# Altium footprint library 4.01-2.00mm排针-排母.PcbLib: 40 footprints (part 1 of 3)
Each footprint in its own frame and in the unit in brackets; x right, y up, seen from the top. Pads: shape width x height; smd on the part's side, far side on the other; paste and mask are expansions set on the pad; w line width, h text height; cw(c..) or ccw(c..) is an arc to the next point about the centre after c.
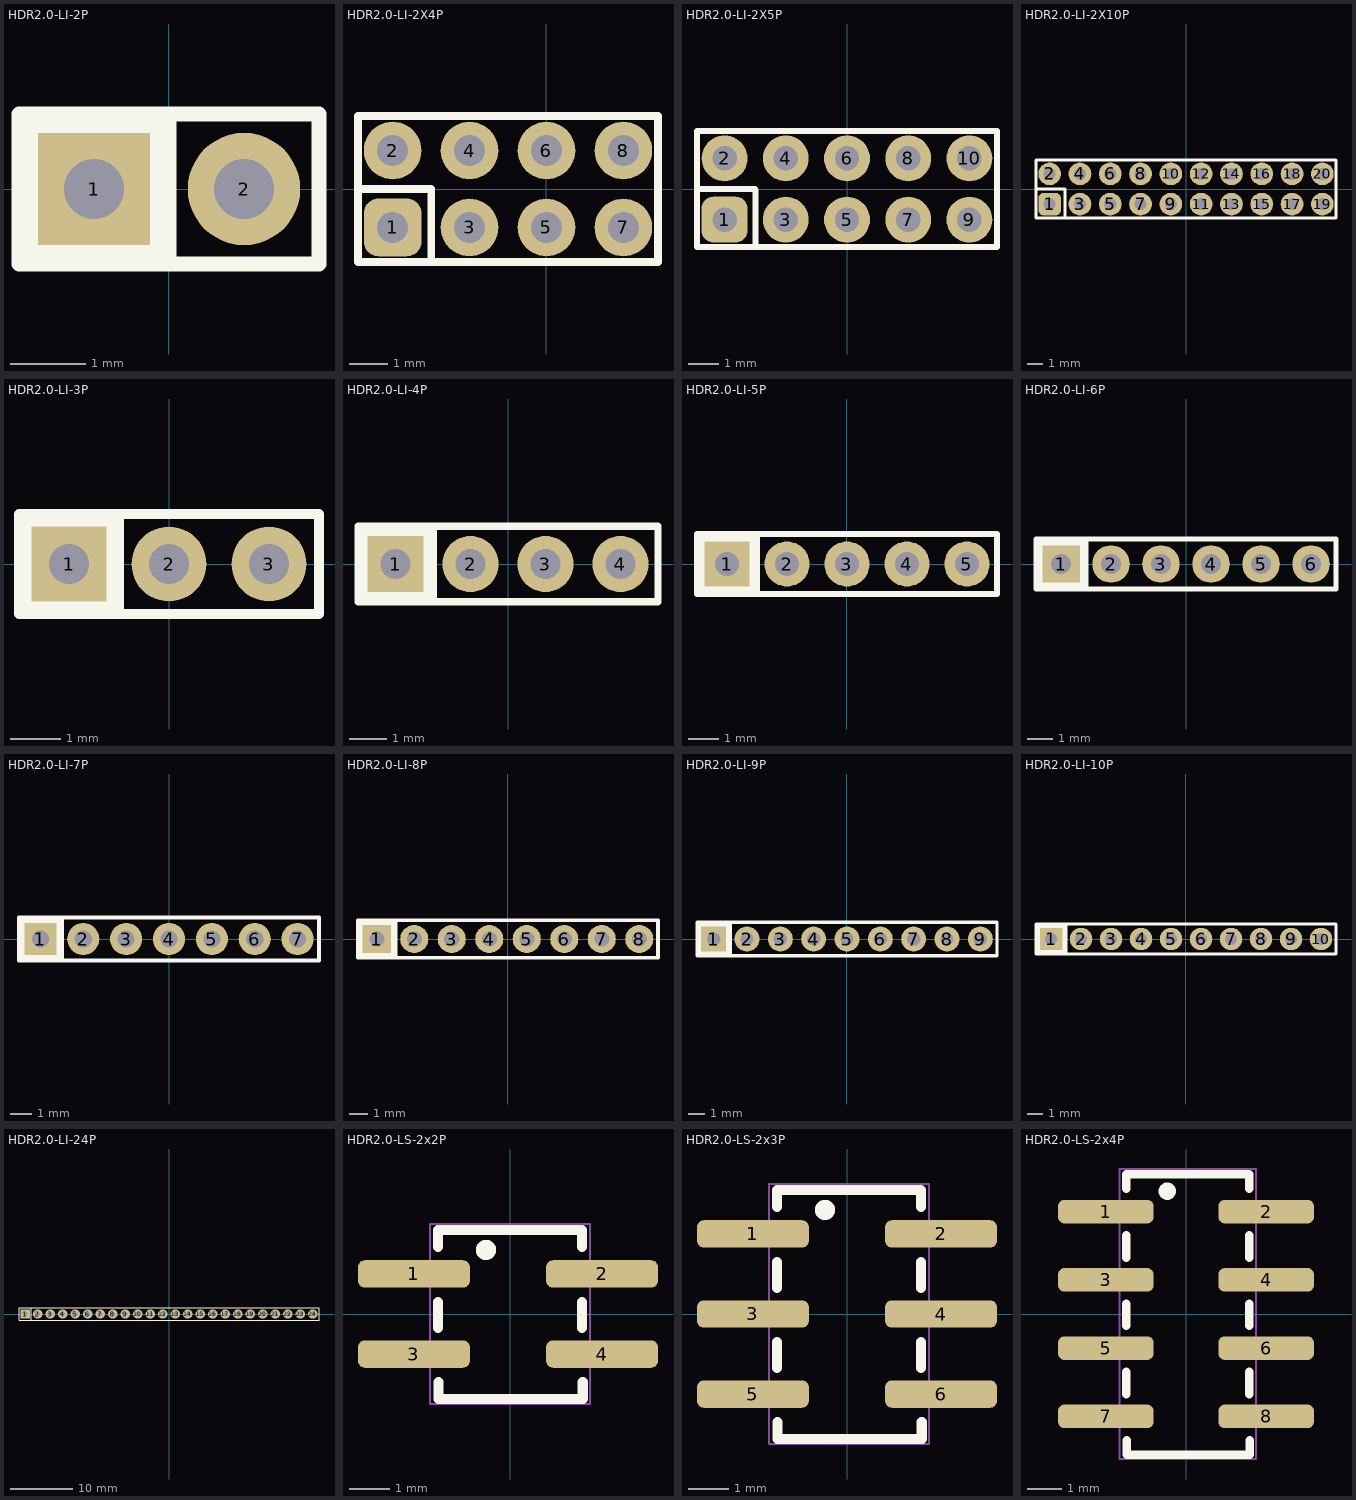
[diagram p0: the footprints below, top view; thin cyan lines are the x and y axes]

## HDR2.0-LI-2P [mm] "直插，脚距：2.0mm  封装库来自淘宝卖家 ID：黄晶宝石"
pads (2):
  rect 1.5x1.5 hole 0.8: 1(-1,0)
  round 1.5 hole 0.8: 2(1,0)
Top Overlay:
  rectangle: -2,-1 0,1
  lines w0.2: 0,-1 0,1 ; -2,-1 2,-1 2,1 -2,1 -2,-1
3D body "HDR2.0-LI-2P.STEP": height 6.5, standoff -2.8, extent -2,-1 2,1

## HDR2.0-LI-2X4P [mm] "双排直插2x4Pin，脚距：2.0mm"
pads (8):
  rrect50% 1.5x1.5 hole 0.8: 1(-4,-1)
  round 1.5 hole 0.8: 2(-4,1) 3(-2,-1) 4(-2,1) 5(0,-1) 6(0,1) 7(2,-1) 8(2,1)
Top Overlay:
  lines w0.2: -4.9,0 -3,0 ; -2.993,-1.9 -2.993,-0.027 ; -4.9,-1.9 -4.9,1.9 2.9,1.9 2.9,-1.9 -4.9,-1.9
3D body "HDR2.0-LI-4P.STEP": height 6.5, standoff -2.8, extent -5,0 3,2
3D body "HDR2.0-LI-4P.STEP": height 6.5, standoff -2.8, extent -5,-2 3,0

## HDR2.0-LI-2X5P [mm] "双排直插2x5Pin，脚距：2.0mm"
pads (10):
  rrect50% 1.5x1.5 hole 0.8: 1(-4,-1)
  round 1.5 hole 0.8: 2(-4,1) 3(-2,-1) 4(-2,1) 5(0,-1) 6(0,1) 7(2,-1) 8(2,1) 9(4,-1) 10(4,1)
Top Overlay:
  lines w0.2: -4.9,0 -3,0 ; -2.993,-1.9 -2.993,-0.027 ; -4.9,-1.9 4.9,-1.9 4.9,1.9 -4.9,1.9 -4.9,-1.9
3D body "HDR2.0-LI-5P.STEP": height 6.5, standoff -2.8, extent -5,-2 5,0
3D body "HDR2.0-LI-5P.STEP": height 6.5, standoff -2.8, extent -5,0 5,2

## HDR2.0-LI-2X10P [mm] "双排直插2x10Pin，脚距：2.0mm"
pads (20):
  rrect50% 1.5x1.5 hole 0.8: 1(-9,-1)
  round 1.5 hole 0.8: 2(-9,1) 3(-7,-1) 4(-7,1) 5(-5,-1) 6(-5,1) 7(-3,-1) 8(-3,1) 9(-1,-1) 10(-1,1) 11(1,-1) 12(1,1) 13(3,-1) 14(3,1) 15(5,-1) 16(5,1) 17(7,-1) 18(7,1) 19(9,-1) 20(9,1)
Top Overlay:
  lines w0.2: -9.891,0 -8,0 -8,-1.9 ; -9.9,-1.9 -9.9,1.9 9.9,1.9 9.9,-1.9 -9.9,-1.9
3D body "HDR2.0-LI-10P.STEP": height 6.5, standoff -2.8, extent -10,0 10,2
3D body "HDR2.0-LI-10P.STEP": height 6.5, standoff -2.8, extent -10,-2 10,0

## HDR2.0-LI-3P [mm] "直插，脚距：2.0mm 封装库来自淘宝卖家 ID：黄晶宝石"
pads (3):
  rect 1.5x1.5 hole 0.8: 1(-2,0)
  round 1.5 hole 0.8: 2(0,0) 3(2,0)
Top Overlay:
  rectangle: -3,-1 -1,1
  lines w0.2: -1,-1 -1,1 ; -3,-1 3,-1 3,1 -3,1 -3,-1
3D body "HDR2.0-LI-3P.STEP": height 2.3, standoff -7, extent -3,-1 3,1

## HDR2.0-LI-4P [mm] "直插，脚距：2.0mm 封装库来自淘宝卖家 ID：黄晶宝石"
pads (4):
  rect 1.5x1.5 hole 0.8: 1(-3,0)
  round 1.5 hole 0.8: 2(-1,0) 3(1,0) 4(3,0)
Top Overlay:
  rectangle: -4,-1 -2,1
  lines w0.2: -2,-1 -2,1 ; -4,-1 -4,1 4,1 4,-1 -4,-1
3D body "HDR2.0-LI-4P.STEP": height 6.5, standoff -2.8, extent -4,-1 4,1

## HDR2.0-LI-5P [mm] "直插，脚距：2.0mm"
pads (5):
  rect 1.5x1.5 hole 0.8: 1(-4,0)
  round 1.5 hole 0.8: 2(-2,0) 3(0,0) 4(2,0) 5(4,0)
Top Overlay:
  rectangle: -5,-1 -3,1
  lines w0.2: -3,-1 -3,1 ; -5,-1 5,-1 ; -5,-1 -5,1 5,1 5,-1 ; -5,-1 5,-1
3D body "HDR2.0-LI-5P.STEP": height 6.5, standoff -2.8, extent -5,-1 5,1

## HDR2.0-LI-6P [mm] "直插，脚距：2.0mm 封装库来自淘宝卖家 ID：黄晶宝石"
pads (6):
  rect 1.5x1.5 hole 0.8: 1(-5,0)
  round 1.5 hole 0.8: 2(-3,0) 3(-1,0) 4(1,0) 5(3,0) 6(5,0)
Top Overlay:
  rectangle: -6,-1 -4,1
  lines w0.2: -4,-1 -4,1 ; -6,-1 6,-1 6,1 -6,1 -6,-1
3D body "HDR2.0-LI-6P.STEP": height 6.5, standoff -2.8, extent -6,-1 6,1

## HDR2.0-LI-7P [mm] "直插，脚距：2.0mm 封装库来自淘宝卖家 ID：黄晶宝石"
pads (7):
  rect 1.5x1.5 hole 0.8: 1(-6,0)
  round 1.5 hole 0.8: 2(-4,0) 3(-2,0) 4(0,0) 5(2,0) 6(4,0) 7(6,0)
Top Overlay:
  rectangle: -7,-1 -5,1
  lines w0.2: -5,-1 -5,1 ; -7,-1 7,-1 7,1 -7,1 -7,-1
3D body "HDR2.0-LI-7P.STEP": height 6.5, standoff -2.8, extent -7,-1 7,1

## HDR2.0-LI-8P [mm] "直插，脚距：2.0mm 封装库来自淘宝卖家 ID：黄晶宝石"
pads (8):
  rect 1.5x1.5 hole 0.8: 1(-7,0)
  round 1.5 hole 0.8: 2(-5,0) 3(-3,0) 4(-1,0) 5(1,0) 6(3,0) 7(5,0) 8(7,0)
Top Overlay:
  rectangle: -8,-1 -6,1
  lines w0.2: -6,-1 -6,1 ; -8,-1 -8,1 8,1 8,-1 -8,-1
3D body "HDR2.0-LI-8P.STEP": height 6.5, standoff -2.8, extent -8,-1 8,1

## HDR2.0-LI-9P [mm] "直插，脚距：2.0mm"
pads (9):
  rect 1.5x1.5 hole 0.8: 1(-8,0)
  round 1.5 hole 0.8: 2(-6,0) 3(-4,0) 4(-2,0) 5(0,0) 6(2,0) 7(4,0) 8(6,0) 9(8,0)
Top Overlay:
  rectangle: -9,-1 -7,1
  lines w0.2: -7,-1 -7,1 ; -9,-1 9,-1 9,1 -9,1 -9,-1
3D body "HDR2.0-LI-9P.STEP": height 6.5, standoff -2.8, extent -9,-1 9,1

## HDR2.0-LI-10P [mm] "直插，脚距：2.0mm"
pads (10):
  rect 1.5x1.5 hole 0.8: 1(-9,0)
  round 1.5 hole 0.8: 2(-7,0) 3(-5,0) 4(-3,0) 5(-1,0) 6(1,0) 7(3,0) 8(5,0) 9(7,0) 10(9,0)
Top Overlay:
  rectangle: -10,-1 -8,1
  lines w0.2: -8,-1 -8,1 ; -10,-1 10,-1 10,1 -10,1 -10,-1
3D body "HDR2.0-LI-10P.STEP": height 6.5, standoff -2.8, extent -10,-1 10,1

## HDR2.0-LI-24P [mm] "直插，脚距：2.0mm"
pads (24):
  rect 1.5x1.5 hole 0.8: 1(-23,0)
  round 1.5 hole 0.8: 2(-21,0) 3(-19,0) 4(-17,0) 5(-15,0) 6(-13,0) 7(-11,0) 8(-9,0) 9(-7,0) 10(-5,0) 11(-3,0) 12(-1,0) 13(1,0) 14(3,0) 15(5,0) 16(7,0) 17(9,0) 18(11,0) 19(13,0) 20(15,0) 21(17,0) 22(19,0) 23(21,0) 24(23,0)
Top Overlay:
  lines w0.2: -22,-1 -22,1 ; -6,-1 14.1,-1 24,-1 24,1 14,1 -6,1 ; -4,-1 -24,-1 -24,1 -4,1
3D body "HDR2.0-LI-10P.STEP": height 6.5, standoff -2.8, extent -24,-1 -4,1
3D body "HDR2.0-LI-10P.STEP": height 6.5, standoff -2.8, extent -4,-1 16,1
3D body "HDR2.0-LI-4P.STEP": height 6.5, standoff -2.8, extent 16,-1 24,1

## HDR2.0-LS-2x2P [mil] "双排排针，SMD，2x2脚"
pads (4):
  rrect50% 110x27 smd mask+2: 1(-94.49,39.37) 2(90.55,39.37) 3(-94.49,-39.37) 4(90.55,-39.37)
Top Overlay:
  circle w10: c-23.62,63 r5
  lines w10: -70.87,-13.69 -70.87,11.81 ; -70.87,66.03 -70.87,82.68 70.86,82.68 70.86,66.03 ; -70.25,-66.91 -70.25,-83.56 71.48,-83.56 71.48,-66.91 ; 70.86,-13.69 70.86,11.81
Mechanical 15:
  region: 128,-49.2 68.9,-49.2 68.9,-29.5 128,-29.5
  region: 128,29.5 68.9,29.5 68.9,49.2 128,49.2
  region: -68.9,29.5 -128,29.5 -128,49.2 -68.9,49.2
  region: -68.9,-49.2 -128,-49.2 -128,-29.5 -68.9,-29.5
  lines w2: -78.7,-88.6 78.7,-88.6 78.7,88.6 -78.7,88.6 -78.7,-88.6
3D body "2_2.step": height 285.47, standoff 0, extent -126,-78.74 126,78.75

## HDR2.0-LS-2x3P [mil] "双排排针，SMD，2x3脚"
pads (6):
  rrect50% 110x27 smd mask+2: 1(-92.52,78.74) 2(92.52,78.74) 3(-92.52,0) 4(92.52,0) 5(-92.52,-78.74) 6(92.52,-78.74)
Top Overlay:
  circle w10: c-21.65,102.37 r5
  lines w10: -68.9,-53.06 -68.9,-27.56 ; -68.9,25.68 -68.9,51.18 ; -68.9,105.4 -68.9,122.05 72.83,122.05 72.83,105.4 ; -68.28,-106.28 -68.28,-122.93 73.45,-122.93 73.45,-106.28 ; 72.83,-53.06 72.83,-27.56 ; 72.83,25.68 72.83,51.18
Mechanical 15:
  region: 129.97,-88.57 70.87,-88.57 70.87,-68.87 129.97,-68.87
  region: -66.93,-88.57 -126.03,-88.57 -126.03,-68.87 -66.93,-68.87
  region: 129.97,-9.83 70.87,-9.83 70.87,9.87 129.97,9.87
  region: 129.97,68.87 70.87,68.87 70.87,88.57 129.97,88.57
  region: -66.93,68.87 -126.03,68.87 -126.03,88.57 -66.93,88.57
  region: -66.93,-9.83 -126.03,-9.83 -126.03,9.87 -66.93,9.87
  lines w2: -76.73,-127.97 80.67,-127.97 80.67,49.23 80.67,127.97 -76.73,127.97 -76.73,-49.23 -76.73,-127.97
3D body "2_3.step": height 285.41, standoff 0, extent -125.96,-118.11 125.98,118.09

## HDR2.0-LS-2x4P [mm] "双排排针，SMD，2x4脚"
pads (8):
  rrect50% 2.794x0.686 smd mask+0.051: 1(-2.35,3) 2(2.35,3) 3(-2.35,1) 4(2.35,1) 5(-2.35,-1) 6(2.35,-1) 7(-2.35,-3) 8(2.35,-3)
Top Overlay:
  circle w0.254: c-0.55,3.6 r0.127
  lines w0.254: -1.75,-2.348 -1.75,-1.7 ; -1.75,-0.348 -1.75,0.3 ; -1.75,1.652 -1.75,2.3 ; -1.75,3.677 -1.75,4.1 1.85,4.1 1.85,3.677 ; -1.734,-3.7 -1.734,-4.122 1.866,-4.122 1.866,-3.7 ; 1.85,-2.348 1.85,-1.7 ; 1.85,-0.348 1.85,0.3 ; 1.85,1.652 1.85,2.3
Mechanical 15:
  region: 3.301,-3.25 1.8,-3.25 1.8,-2.749 3.301,-2.749
  region: -1.7,-3.25 -3.201,-3.25 -3.201,-2.749 -1.7,-2.749
  region: 3.301,-1.25 1.8,-1.25 1.8,-0.749 3.301,-0.749
  region: -1.7,-1.25 -3.201,-1.25 -3.201,-0.749 -1.7,-0.749
  region: 3.301,0.75 1.8,0.75 1.8,1.251 3.301,1.251
  region: 3.301,2.749 1.8,2.749 1.8,3.25 3.301,3.25
  region: -1.7,2.749 -3.201,2.749 -3.201,3.25 -1.7,3.25
  region: -1.7,0.75 -3.201,0.75 -3.201,1.251 -1.7,1.251
  lines w0.051: -1.949,-4.25 2.049,-4.25 2.049,4.25 -1.949,4.25 -1.949,-4.25
3D body "2_2.step": height 7.25, standoff 0, extent -3.15,-4 3.25,0
3D body "2_2.step": height 7.25, standoff 0, extent -3.15,0 3.25,4